# Altium schematic symbol library CAP 400V.SchLib: 1 symbol
Pins are listed as number, name and electrical type; pins without a type are passive.

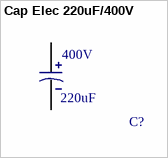
[diagram p0: symbol Cap Elec 220uF/400V]

## Cap Elec 220uF/400V
designator C?  Capacitance: 220uF  Voltage: 400V  (hidden comment: Cap Elec 220uF/400V)
220µF 400V Aluminum Electrolytic Capacitors Radial, Can - Snap-In  2000 Hrs @ 85°C; Manufacturer 1: EPCOS (TDK); Manufacturer 1 PN: B43231B9227M000m; Mouser PN: 871-B43231B9227M000; Digikey PN: 495-6204-ND; ComponentLink1Description: Datasheet; ComponentLink1URL: https://content.kemet.com/datasheets/KEM_A4004_ESK.pdf
footprint Cap Elec 470uF/16V (470µF 16V Aluminum Electrolytic Capacitors Radial, Can  8000 Hrs @ 105°C)
pins: 1, 2